# Altium schematic symbol library Memory_UniqueID.SchLib: 2 symbols
Pins are listed as number, name and electrical type; pins without a type are passive.

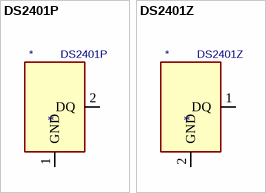
[diagram p0: symbols DS2401P to DS2401Z]

## DS2401P
designator *  value DS2401P
ki_keywords: OneWire 1-Wire 1Wire Maxim Dallas ID; ki_description: Silicon Serial Number, TSOC-6; ki_fp_filters: TSOC*; Footprint: Package_SO_J-Lead:TSOC-6_3.76x3.94mm_P1.27mm; Supplier: http://pdfserv.maximintegrated.com/en/ds/DS2401.pdf
footprint TSOC-6_3.76x3.94mm_P1.27mm
pins: 1 GND (power), 2 DQ (io), 3 NC (in) hidden, 4 NC (in) hidden, 5 NC (in) hidden, 6 NC (in) hidden

## DS2401Z
designator *  value DS2401Z
ki_keywords: OneWire 1-Wire 1Wire Maxim Dallas ID; ki_description: Silicon Serial Number, SOT-223; ki_fp_filters: SOT?223*; Footprint: Package_TO_SOT_SMD:SOT-223; Supplier: http://pdfserv.maximintegrated.com/en/ds/DS2401.pdf
footprint SOT-223
pins: 1 DQ (io), 2 GND (power), 3 NC (in) hidden, 4 GND hidden